# Altium schematic symbol library GRM31CR61E476ME44K.SchLib: 1 symbol
Pins are listed as number, name and electrical type; pins without a type are passive.

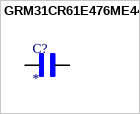
[diagram p0: symbol GRM31CR61E476ME44K]

## GRM31CR61E476ME44K
designator C?
MF: {'manufacturer': u'Murata Electronics'}; MP: GRM31CR61E476ME44K; Package: None; Price: None; Value: *; Availability: Unavailable
footprint CAPC3216X160N
pins: 1, 2